# Altium footprint library Radial_12.5x35mm.PcbLib: 1 footprints
Each footprint in its own frame and in the unit in brackets; x right, y up, seen from the top. Pads: shape width x height; smd on the part's side, far side on the other; paste and mask are expansions set on the pad; w line width, h text height; cw(c..) or ccw(c..) is an arc to the next point about the centre after c.
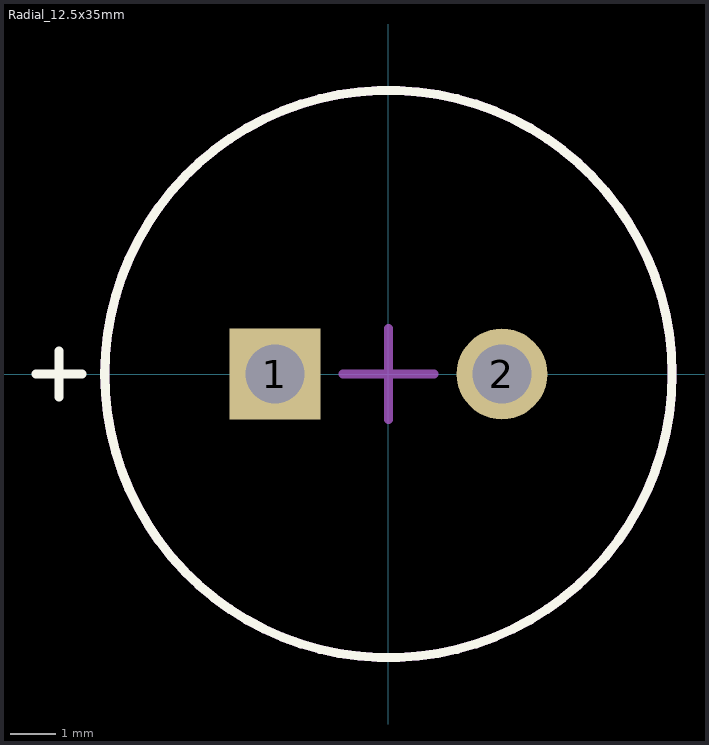
[diagram p0: the footprint, top view; thin cyan lines are the x and y axes]

## Radial_12.5x35mm [mm]
pads (2):
  rect 2x2 hole 1.3 mask+0.102: 1(-2.5,0)
  round 2 hole 1.3 mask+0.102: 2(2.5,0)
Top Overlay:
  circle w0.2: c0,0 r6.25
  lines w0.2: -7.768,0 -6.752,0 ; -7.26,-0.508 -7.26,0.508
Mechanical 13:
  circle w0.2: c0,0 r6.25
Mechanical 15:
  lines w0.2: -1,0 0,0 ; 0,-1 0,0 ; 0,1 0,0 ; 1,0 0,0
3D body "Radial_12x35mm.STEP": height 35.01, standoff -16.99, extent -6.25,-6.249 6.25,6.249